# EAGLE library part LE33CD (library ArdDisp)
stab. 3,3V Uin=18V Udrop=0.5V Iout=150mA Iq=1.5mA 2% 0.1A -40...+125°C SO-8
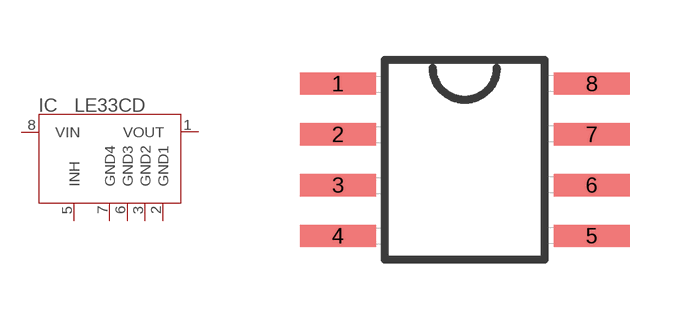
[diagram p18: symbol with the pads of SO08; footprint SO08]

Designator prefix IC

## LE33CD-SO08  [SO08]
1  VOUT
2  GND1
3  GND2
5  INH
6  GND3
7  GND4
8  VIN

## Footprint SO08 (pad centres in mm)
Pady jsou v mil/12.5 rozmery nejsou overeny se skutecnosti Hořa
smd 1.905 x 0.559: 1 -3.175,1.905; 2 -3.175,0.635; 3 -3.175,-0.635; 4 -3.175,-1.905; 5 3.175,-1.905; 6 3.175,-0.635; 7 3.175,0.635; 8 3.175,1.905